# Altium footprint library SOIC-8_ExpPad.PcbLib: 1 footprints
Each footprint in its own frame and in the unit in brackets; x right, y up, seen from the top. Pads: shape width x height; smd on the part's side, far side on the other; paste and mask are expansions set on the pad; w line width, h text height; cw(c..) or ccw(c..) is an arc to the next point about the centre after c.
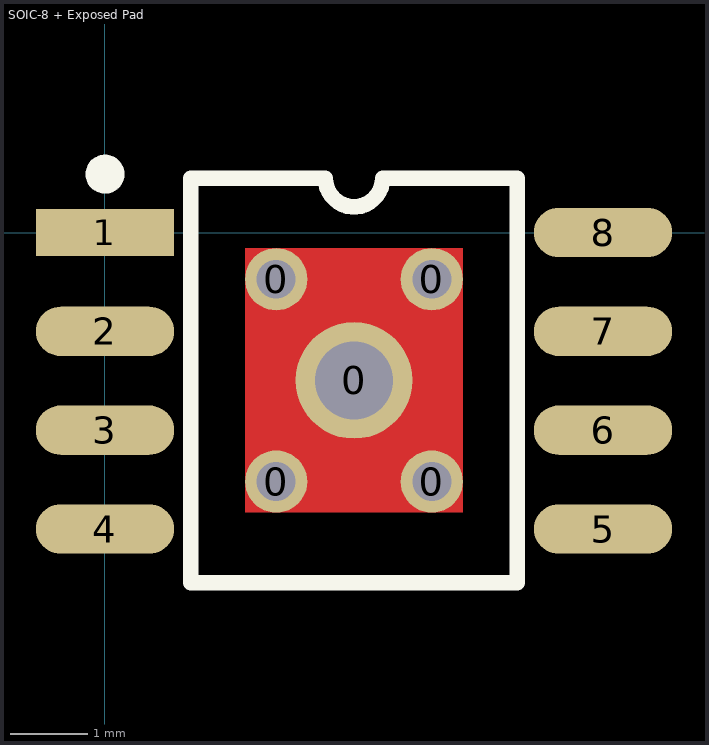
[diagram p0: the footprint, top view; thin cyan lines are the x and y axes]

## SOIC-8 + Exposed Pad [mm]
pads (13):
  round 0.8 hole 0.5: 0(2.2,-3.2) 0(2.2,-0.6) 0(4.2,-3.2) 0(4.2,-0.6)
  round 1.5 hole 1: 0(3.2,-1.9)
  rect 1.778x0.6 smd: 1(0,0)
  oval 1.778x0.635 smd: 2(0,-1.27) 3(0,-2.54) 4(0,-3.81) 5(6.4,-3.81) 6(6.4,-2.54) 7(6.4,-1.27) 8(6.4,0)
Top Layer:
  region: 1.8,-0.2 1.8,-3.6 4.6,-3.6 4.6,-0.2
Top Overlay:
  circle w0.25: c0,0.75 r0.125
  lines w0.2: 5.265,-4.5 1.1,-4.5 1.1,0.696 2.833,0.696 ccw(c3.2,0.696) 3.567,0.696 5.3,0.696 5.3,-4.5
Top Solder:
  region: 1.7,-0.1 1.7,-3.7 4.7,-3.7 4.7,-0.1
Mechanical 15:
  text "'.Designator'" at -0.7,-2.834 h2
3D body "SOIC-8.step": height 1.75, standoff -0.01, extent 0.1,-4.4 6.3,0.6